# EAGLE library part MICRO-USB (library microusb)
Micro USB B connector
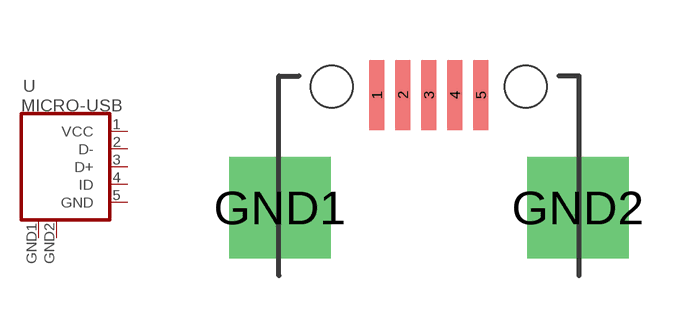
[diagram p0: symbol with the pads of MICRO-USB; footprint MICRO-USB]

Designator prefix -

## MICRO-USB  [MICRO-USB]
1  VCC  pwr
2  D-
3  D+
4  ID
5  GND  pwr
GND1  GND  pwr
GND2  GND  pwr

## Footprint MICRO-USB (pad centres in mm)
smd 0.375 x 1.75: 1 -1.3,4.525; 2 -0.65,4.525; 3 0,4.525; 4 0.65,4.525; 5 1.3,4.525
drill 1.2 pad 2.54 square: GND1 -3.725,1.7; GND2 3.725,1.7
hole 1.05 at -2.425,4.73
hole 1.05 at 2.425,4.73